# Altium schematic symbol library RF.SchLib: 4 symbols
Pins are listed as number, name and electrical type; pins without a type are passive.

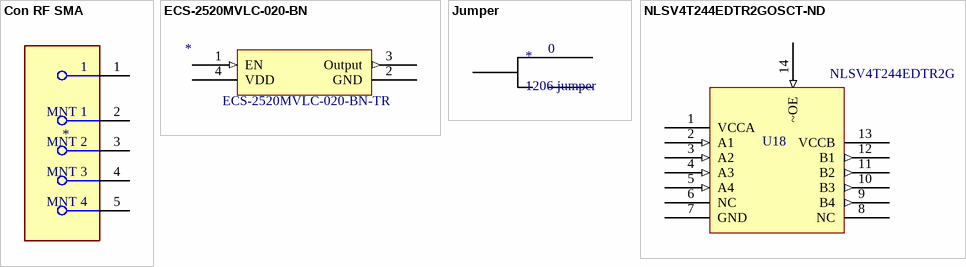
[diagram p0: symbols Con RF SMA to NLSV4T244EDTR2GOSCT-ND]

## Con RF SMA
designator *
SMA Connector Jack, Female Socket 50Ohm Through Hole Solder; Manufacturer: Adam Equipment; Manufacturer Part Number: RF2-04A-T-00-50-G; RoHS: No; Category: RF / Coaxial Connectors; Stock 1: 10778; Pricing 1: 1=1.84000, 10=1.60200, 25=1.53400, 50=1.49980, 100=1.43170, 250=1.29532, 500=1.19306, 1000=1.02262, 2500=0.95445 (USD); Supplier 1: Digi-Key
pins: 1, 2 MNT 1, 3 MNT 2, 4 MNT 3, 5 MNT 4

## ECS-2520MVLC-020-BN
designator *  Supplier Part Number 1: ECS-2520MVLC-020-BN-TR
Crystal Oscillator 2MHz 1.8V/2.5V/3.3V 15pF 4-Pin CSMD T/R; Manufacturer: ECS International; Supplier 1: Avnet; Manufacturer Part Number: ECS-2520MVLC-020-BN-TR; RoHS: Yes; Category: Oscillators; Stock 1: 1000; Pricing 1: 1000=0.81200, 2000=0.78960, 4000=0.76720, 6000=0.69160, 8000=0.67080 (USD)
pins: 1 EN (in), 2 GND, 3 Output (out), 4 VDD

## Jumper
designator *, comment 1206 jumper
RES SMD 0 OHM JUMPER 1/2W 1206; Supplier 1: Digi-Key
pins: ?1, ?2, ?3
text: 0

## NLSV4T244EDTR2GOSCT-ND
designator U18  Supplier Part Number 1: NLSV4T244EDTR2G
Voltage Level Translator 4-CH Unidirectional 14-Pin TSSOP W T/R; Manufacturer: ON Semiconductor; Nominal Supply Current: 4uA; Max Supply Voltage: 4.5V; Min Supply Voltage: 900mV; Propagation Delay: 1.6ns; Number of Channels: 4; High Level Output Current: -24mA; Low Level Output Current: 24mA; Turn-On Delay Time: 7.3ns; Output Type: 3-STATE,Voltage; Manufacturer Part Number: NLSV4T244EDTR2G; RoHS: Yes; Category: Voltage Level Shifters; Stock 1: 13729; Pricing 1: 220=1.50960, 230=1.46880, 450=1.42800, 1100=1.38720, 2200=1.34640, 11000=1.30560, 22000=1.26480 (USD); Mount: Surface Mount; Case/Package: TSSOP; Number of Pins: 8; Min Operating Temperature: -40°C; Max Operating Temperature: 85°C; Packaging: Tape and Reel; Package Quantity: 2500; Logic Function: Translator; Number of Bits: 4; Quiescent Current: 4uA; Series: -; Supply Current: 4uA; Lead Free: Lead Free; Halogen Free: Halogen Free; RoHS Compliant: Yes; ComponentLink1URL: https://datasheet.ciiva.com/1900/nlsv4t244e-d-1900875.pdf?src-supplier=Digi-Key; ComponentLink1Description: https://datasheet.ciiva.com/1900/nlsv4t244e-d-1900875.pdf?src-supplier=Digi-Key; Supplier 1: Avnet
pins: 1 VCCA, 2 A1 (in), 3 A2 (in), 4 A3 (in), 5 A4 (in), 6 NC, 7 GND, 8 NC, 9 B4 (out), 10 B3 (out), 11 B2 (out), 12 B1 (out), 13 VCCB, 14 ~OE (in)